# Altium schematic symbol library Sch_ONSemiconductor.SchLib: 1 symbol
Pins are listed as number, name and electrical type; pins without a type are passive.

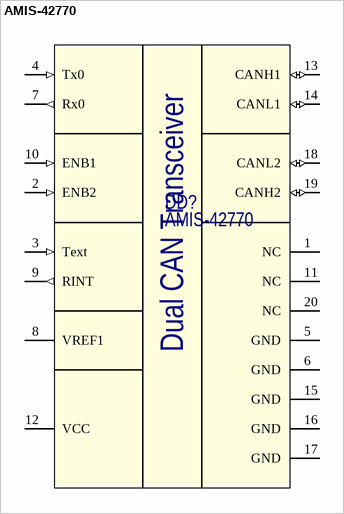
[diagram p0: symbol AMIS-42770]

## AMIS-42770
designator DD?
Dual High Speed CAN Transceiver; Manufacturer: ON Semiconductor; Part Number: AMIS-42770
footprint SOIC-20N (SOIC, 20-Leads, Body 12.80x7.50mm, Pitch 1.27mm, IPC Medium Density)
pins: 1 NC, 2 ENB2 (in), 3 Text (in), 4 Tx0 (in), 5 GND (power), 6 GND (power), 7 Rx0 (out), 8 VREF1, 9 RINT (out), 10 ENB1 (in), 11 NC, 12 VCC (power), 13 CANH1 (io), 14 CANL1 (io), 15 GND (power), 16 GND (power), 17 GND (power), 18 CANL2 (io), 19 CANH2 (io), 20 NC
text: Dual CAN Transceiver